# Altium footprint library PCB - Switches_THT - SPDT.PcbLib: 1 footprints
Each footprint in its own frame and in the unit in brackets; x right, y up, seen from the top. Pads: shape width x height; smd on the part's side, far side on the other; paste and mask are expansions set on the pad; w line width, h text height; cw(c..) or ccw(c..) is an arc to the next point about the centre after c.
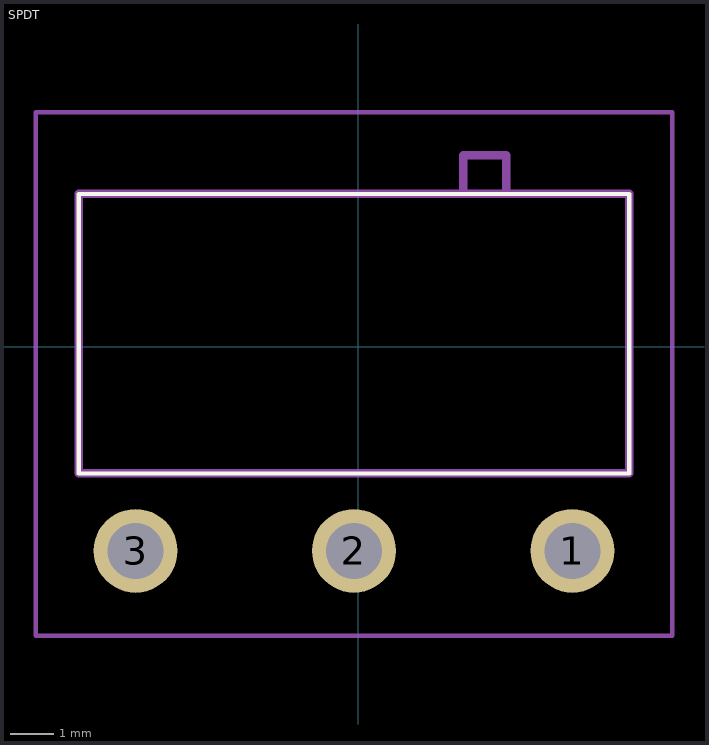
[diagram p0: the footprint, top view; thin cyan lines are the x and y axes]

## SPDT [mm]
pads (3):
  round 1.95 hole 1.3: 1(4.985,-4.75) 2(-0.095,-4.75) 3(-5.175,-4.75)
Top Overlay:
  lines w0.1: -6.495,-2.95 6.305,-2.95 6.305,3.55 -6.495,3.55 -6.495,-2.95
Mechanical 13:
  lines w0.2: 2.445,3.55 2.445,4.45 3.445,4.45 3.445,3.55 ; -6.495,-2.95 6.305,-2.95 6.305,3.55 -6.495,3.55 -6.495,-2.95
Mechanical 15:
  lines w0.1: -7.495,-6.725 7.305,-6.725 7.305,5.45 -7.495,5.45 -7.495,-6.725
3D body "RBF dg23-b3la.step": height 5.95, standoff -2.95, extent -6.504,-4.953 7.52,5.454